# EAGLE library part ES7243E (library edrtech_lib)
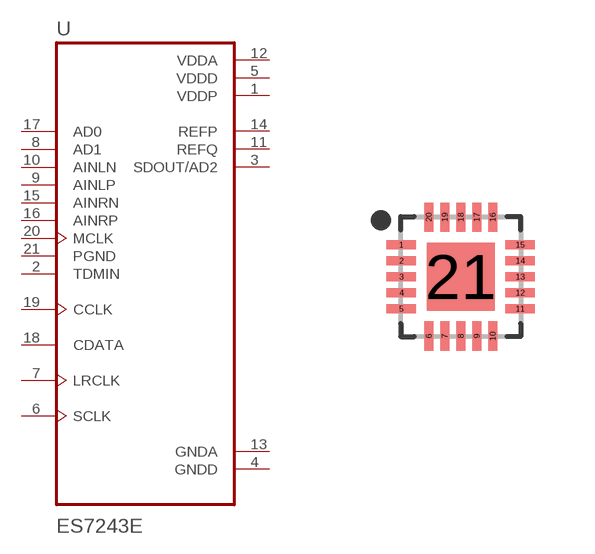
[diagram p3: symbol with the pads of QFN40P300X300X55-21T170N; footprint QFN40P300X300X55-21T170N]

Designator prefix -

## ES7243EES7243E  [QFN40P300X300X55-21T170N]
1  VDDP  pwr
2  TDMIN  in
3  SDOUT/AD2  out
4  GNDD  pwr
5  VDDD  pwr
6  SCLK
7  LRCLK
8  AD1  in
9  AINLP  in
10  AINLN  in
11  REFQ  out
12  VDDA  pwr
13  GNDA  pwr
14  REFP  out
15  AINRN  in
16  AINRP  in
17  AD0  in
18  CDATA
19  CCLK
20  MCLK  in
21  PGND  in

## Footprint QFN40P300X300X55-21T170N (pad centres in mm)
20-QFN, 0.40 mm pitch, 3.00 X 3.00 X 0.55 mm body, 1.70 X 1.70 mm thermal pad 20-pin QFN package with 0.40 mm pitch with body size 3.00 X 3.00 X 0.55 mm and thermal pad size 1.70 X 1.70 mm
smd 0.737 x 0.22: 1 -1.487,0.8; 2 -1.487,0.4; 3 -1.487,0; 4 -1.487,-0.4; 5 -1.487,-0.8; 11 1.487,-0.8; 12 1.487,-0.4; 13 1.487,0; 14 1.487,0.4; 15 1.487,0.8
smd 0.22 x 0.737: 6 -0.8,-1.487; 7 -0.4,-1.487; 8 0,-1.487; 9 0.4,-1.487; 10 0.8,-1.487; 16 0.8,1.487; 17 0.4,1.487; 18 0,1.487; 19 -0.4,1.487; 20 -0.8,1.487
smd 1.7 x 1.7: 21 0,0